# Altium footprint library 10nF 1KV cap cer TH.PcbLib: 1 footprints
Each footprint in its own frame and in the unit in brackets; x right, y up, seen from the top. Pads: shape width x height; smd on the part's side, far side on the other; paste and mask are expansions set on the pad; w line width, h text height; cw(c..) or ccw(c..) is an arc to the next point about the centre after c.
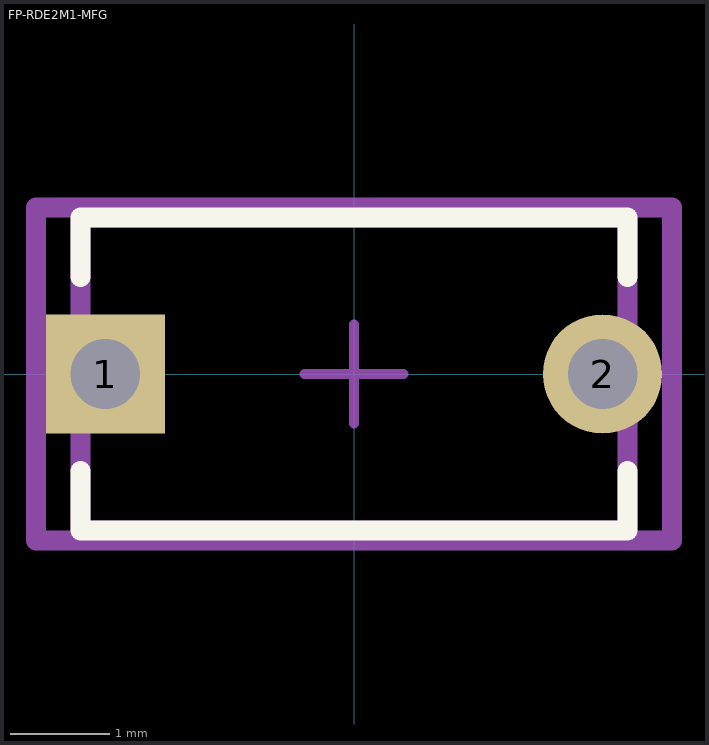
[diagram p0: the footprint, top view; thin cyan lines are the x and y axes]

## FP-RDE2M1-MFG [mm]
pads (2):
  rect 1.2x1.2 hole 0.7 paste-2539.97 mask+0: 1(-2.5,0)
  round 1.2 hole 0.7 paste-2539.97 mask+0: 2(2.5,0)
Top Overlay:
  lines w0.2: -2.75,-0.975 -2.75,-1.575 2.75,-1.575 2.75,-0.975 ; -2.75,0.975 -2.75,1.575 2.75,1.575 2.75,0.975
Top Assembly:
  lines w0.2: -3.2,-1.675 3.2,-1.675 3.2,1.675 -3.2,1.675 -3.2,-1.675
  text ".Designator" at 0,0.188 h1
Top 3D Body:
  lines w0.2: -2.75,-1.575 2.75,-1.575 2.75,1.575 -2.75,1.575 -2.75,-1.575
Top Courtyard:
  lines w0.2: -3.2,-1.675 3.2,-1.675 3.2,1.675 -3.2,1.675 -3.2,-1.675
Top Component Center:
  lines w0.1: -0.5,0 0.5,0 ; 0,-0.5 0,0.5
3D body "Cap_Murata_RDE5C2E101J2K1H03B_eec.STEP": height 0.25, standoff 0, extent -3.2,-1.675 3.2,1.675